# Altium schematic symbol library FPGA_Xilinx_Virtex7.SchLib: 34 symbols (part 18 of 26)
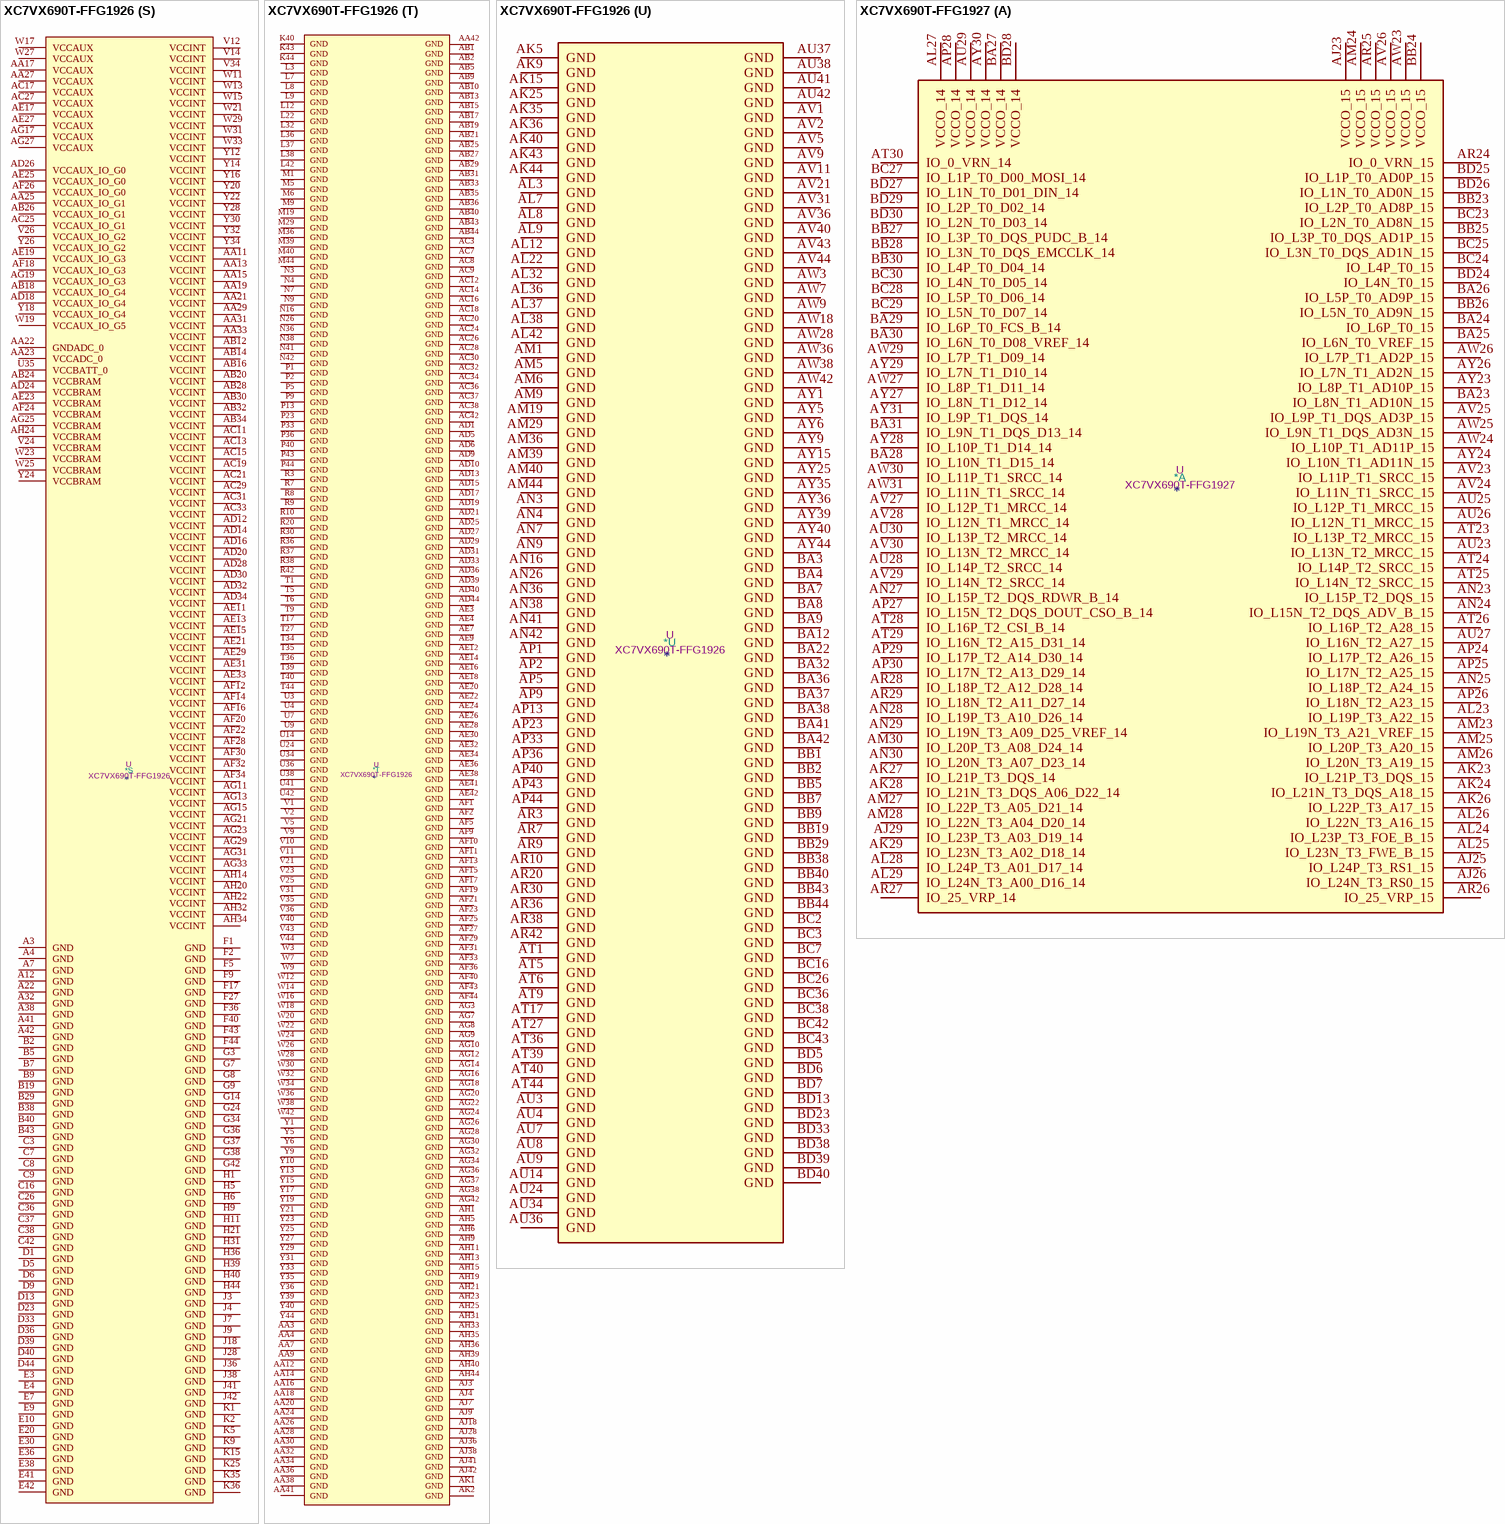
[diagram p189: symbols XC7VX690T-FFG1926 to XC7VX690T-FFG1927]

## XC7VX690T-FFG1926
designator *  value XC7VX690T-FFG1926  Reference: U
Virtex 7 XT 690 XC7VX690T-FFG1926; ki_keywords: FPGA; Description_: Virtex 7 XT 690 XC7VX690T-FFG1926
part A pins: AH26 VCCO_11, AH27 IO_L1P_T0_11, AH28 IO_L1N_T0_11, AH29 IO_L3P_T0_DQS_11, AH30 IO_0_VRN_10, AJ26 IO_L2P_T0_11, AJ27 IO_L2N_T0_11, AJ29 IO_L3N_T0_DQS_11, AJ30 IO_L2P_T0_10, AJ31 IO_L2N_T0_10, AK26 IO_L6P_T0_11, AK27 IO_L4P_T0_11, AK28 IO_L4N_T0_11, AK29 IO_L5P_T0_11, AK30 VCCO_10, AK31 IO_L1P_T0_10, AL25 IO_0_VRN_11, AL26 IO_L6N_T0_VREF_11, AL27 VCCO_11, AL28 IO_25_VRP_11, AL29 IO_L5N_T0_11, AL30 IO_L4P_T0_10, AL31 IO_L1N_T0_10, AM25 IO_L8P_T1_11, AM26 IO_L8N_T1_11, AM27 IO_L7P_T1_11, AM28 IO_L7N_T1_11, AM30 IO_L3P_T0_DQS_10, AM31 IO_L4N_T0_10, AM32 IO_L5P_T0_10, AN25 IO_L10P_T1_11, AN27 IO_L9P_T1_DQS_11, AN28 IO_L9N_T1_DQS_11, AN29 IO_L6P_T0_10, AN30 IO_L3N_T0_DQS_10, AN31 VCCO_10, AN32 IO_L5N_T0_10, AP25 IO_L10N_T1_11, AP26 IO_L12P_T1_MRCC_11, AP27 IO_L12N_T1_MRCC_11, AP28 VCCO_11, AP29 IO_25_VRP_10, AP30 IO_L6N_T0_VREF_10, AP31 IO_L15P_T2_DQS_10, AR25 VCCO_11, AR26 IO_L13P_T2_MRCC_11, AR27 IO_L11P_T1_SRCC_11, AR28 IO_L11N_T1_SRCC_11, AR29 IO_L16P_T2_10, AR31 IO_L15N_T2_DQS_10, AT25 IO_L14P_T2_SRCC_11, AT26 IO_L13N_T2_MRCC_11, AT28 IO_L18P_T2_10, AT29 IO_L18N_T2_10, AT30 IO_L16N_T2_10, AT31 IO_L17P_T2_10, AU25 IO_L15P_T2_DQS_11, AU26 IO_L14N_T2_SRCC_11, AU27 IO_L18P_T2_11, AU28 IO_L14P_T2_SRCC_10, AU29 VCCO_10, AU30 IO_L13P_T2_MRCC_10, AU31 IO_L17N_T2_10, AV25 IO_L15N_T2_DQS_11, AV26 VCCO_11, AV27 IO_L18N_T2_11, AV28 IO_L14N_T2_SRCC_10, AV29 IO_L11P_T1_SRCC_10, AV30 IO_L13N_T2_MRCC_10, AW25 IO_L17P_T2_11, AW26 IO_L17N_T2_11, AW27 IO_L16P_T2_11, AW29 IO_L11N_T1_SRCC_10, AW30 IO_L12P_T1_MRCC_10, AW31 IO_L12N_T1_MRCC_10, AY26 IO_L19P_T3_11, AY27 IO_L16N_T2_11, AY28 IO_L7P_T1_10, AY29 IO_L9P_T1_DQS_10, AY30 VCCO_10, AY31 IO_L10P_T1_10, AY32 IO_L10N_T1_10, BA25 IO_L22P_T3_11, BA26 IO_L19N_T3_VREF_11, BA27 VCCO_11, BA28 IO_L7N_T1_10, BA29 IO_L9N_T1_DQS_10, BA30 IO_L8P_T1_10, BA31 IO_L8N_T1_10, BB24 VCCO_11, BB25 IO_L22N_T3_11, BB26 IO_L23P_T3_11, BB27 IO_L23N_T3_11, BB28 IO_L20P_T3_10, BB30 IO_L19P_T3_10, BB31 IO_L19N_T3_VREF_10, BB32 IO_L23P_T3_10, BC25 IO_L21P_T3_DQS_11, BC27 IO_L24P_T3_11, BC28 IO_L20N_T3_10, BC29 IO_L22P_T3_10, BC30 IO_L24P_T3_10, BC31 VCCO_10, BC32 IO_L23N_T3_10, BD24 IO_L20P_T3_11, BD25 IO_L20N_T3_11, BD26 IO_L21N_T3_DQS_11, BD27 IO_L24N_T3_11, BD28 VCCO_10, BD29 IO_L22N_T3_10, BD30 IO_L24N_T3_10, BD31 IO_L21P_T3_DQS_10, BD32 IO_L21N_T3_DQS_10
part B pins: A23 IO_L24P_T3_13, A24 IO_L24N_T3_13, A25 IO_L22P_T3_13, A26 IO_L22N_T3_13, AJ21 IO_0_VRN_12, AJ22 IO_L4P_T0_12, AJ23 VCCO_12, AJ24 IO_L1N_T0_12, AJ25 IO_L1P_T0_12, AK21 IO_L2P_T0_12, AK22 IO_L4N_T0_12, AK23 IO_L3N_T0_DQS_12, AK24 IO_L3P_T0_DQS_12, AL21 IO_L2N_T0_12, AL23 IO_L5P_T0_12, AL24 IO_25_VRP_12, AM21 IO_L6N_T0_VREF_12, AM22 IO_L6P_T0_12, AM23 IO_L5N_T0_12, AM24 VCCO_12, AN21 VCCO_12, AN22 IO_L10N_T1_12, AN23 IO_L10P_T1_12, AN24 IO_L7P_T1_12, AP21 IO_L8N_T1_12, AP22 IO_L8P_T1_12, AP24 IO_L7N_T1_12, AR21 IO_L12N_T1_MRCC_12, AR22 IO_L12P_T1_MRCC_12, AR23 IO_L9N_T1_DQS_12, AR24 IO_L9P_T1_DQS_12, AT21 IO_L13P_T2_MRCC_12, AT22 VCCO_12, AT23 IO_L11N_T1_SRCC_12, AT24 IO_L11P_T1_SRCC_12, AU21 IO_L13N_T2_MRCC_12, AU22 IO_L14N_T2_SRCC_12, AU23 IO_L14P_T2_SRCC_12, AV22 IO_L16N_T2_12, AV23 IO_L16P_T2_12, AV24 IO_L18P_T2_12, AW21 IO_L15N_T2_DQS_12, AW22 IO_L15P_T2_DQS_12, AW23 VCCO_12, AW24 IO_L18N_T2_12, AY21 IO_L17N_T2_12, AY22 IO_L17P_T2_12, AY23 IO_L19N_T3_VREF_12, AY24 IO_L19P_T3_12, B24 VCCO_13, B25 IO_L20P_T3_13, B26 IO_L20N_T3_13, BA21 IO_L20P_T3_12, BA23 IO_L21N_T3_DQS_12, BA24 IO_L21P_T3_DQS_12, BB21 IO_L20N_T3_12, BB22 IO_L23N_T3_12, BB23 IO_L23P_T3_12, BC21 VCCO_12, BC22 IO_L22P_T3_12, BC23 IO_L24N_T3_12, BC24 IO_L24P_T3_12, BD22 IO_L22N_T3_12, C24 IO_L23P_T3_13, C25 IO_L23N_T3_13, D24 IO_L21P_T3_DQS_13, D25 IO_L21N_T3_DQS_13, D26 IO_L19N_T3_VREF_13, E24 IO_L18N_T2_13, E25 VCCO_13, E26 IO_L19P_T3_13, F24 IO_L18P_T2_13, F25 IO_L16P_T2_13, F26 IO_L16N_T2_13, G25 IO_L17P_T2_13, G26 IO_L17N_T2_13, H24 IO_L15P_T2_DQS_13, H25 IO_L15N_T2_DQS_13, H26 VCCO_13, H27 IO_L13N_T2_MRCC_13, J24 IO_L14P_T2_SRCC_13, J25 IO_L14N_T2_SRCC_13, J26 IO_L11N_T1_SRCC_13, J27 IO_L13P_T2_MRCC_13, K24 IO_L9N_T1_DQS_13, K26 IO_L11P_T1_SRCC_13, K27 IO_L12N_T1_MRCC_13, L24 IO_L9P_T1_DQS_13, L25 IO_L7N_T1_13, L26 IO_L12P_T1_MRCC_13, L27 VCCO_13, M24 VCCO_13, M25 IO_L7P_T1_13, M26 IO_L10P_T1_13, M27 IO_L10N_T1_13, N24 IO_L8P_T1_13, N25 IO_L8N_T1_13, N27 IO_0_VRN_13, P24 IO_L5P_T0_13, P25 IO_L5N_T0_13, P26 IO_L3P_T0_DQS_13, P27 IO_L3N_T0_DQS_13, R24 IO_L6N_T0_VREF_13, R25 VCCO_13, R26 IO_L1P_T0_13, R27 IO_L1N_T0_13, T24 IO_L6P_T0_13, T25 IO_L4P_T0_13, T26 IO_L4N_T0_13, U25 IO_25_VRP_13, U26 IO_L2P_T0_13, U27 IO_L2N_T0_13
part C pins: A31 IO_L1N_T0_AD0N_15, AJ32 IO_L4P_T0_D04_14, AJ33 VCCO_14, AJ34 IO_L2P_T0_D02_14, AJ35 IO_0_VRN_14, AK32 IO_L4N_T0_D05_14, AK33 IO_L6P_T0_FCS_B_14, AK34 IO_L2N_T0_D03_14, AL33 IO_L3P_T0_DQS_PUDC_B_14, AL34 IO_L6N_T0_D08_VREF_14, AL35 IO_L5P_T0_D06_14, AM33 IO_L3N_T0_DQS_EMCCLK_14, AM34 VCCO_14, AM35 IO_L5N_T0_D07_14, AN33 IO_25_VRP_14, AN34 IO_L1P_T0_D00_MOSI_14, AN35 IO_L1N_T0_D01_DIN_14, AP32 IO_L7P_T1_D09_14, AP34 IO_L8P_T1_D11_14, AP35 IO_L8N_T1_D12_14, AR32 IO_L7N_T1_D10_14, AR33 IO_L10P_T1_D14_14, AR34 IO_L10N_T1_D15_14, AR35 VCCO_14, AT32 VCCO_14, AT33 IO_L9P_T1_DQS_14, AT34 IO_L9N_T1_DQS_D13_14, AT35 IO_L12P_T1_MRCC_14, AU32 IO_L11P_T1_SRCC_14, AU33 IO_L11N_T1_SRCC_14, AU35 IO_L12N_T1_MRCC_14, AV32 IO_L14P_T2_SRCC_14, AV33 IO_L13P_T2_MRCC_14, AV34 IO_L13N_T2_MRCC_14, AV35 IO_L15P_T2_DQS_RDWR_B_14, AW32 IO_L14N_T2_SRCC_14, AW33 VCCO_14, AW34 IO_L17P_T2_A14_D30_14, AW35 IO_L15N_T2_DQS_DOUT_CSO_B_14, AY33 IO_L16P_T2_CSI_B_14, AY34 IO_L17N_T2_A13_D29_14, B31 IO_L1P_T0_AD0P_15, B32 IO_L3N_T0_DQS_AD1N_15, BA33 IO_L16N_T2_A15_D31_14, BA34 IO_L18P_T2_A12_D28_14, BA35 IO_L18N_T2_A11_D27_14, BB33 IO_L20P_T3_A08_D24_14, BB34 VCCO_14, BB35 IO_L19P_T3_A10_D26_14, BB36 IO_L19N_T3_A09_D25_VREF_14, BB37 IO_L21P_T3_DQS_14, BC33 IO_L20N_T3_A07_D23_14, BC34 IO_L22P_T3_A05_D21_14, BC35 IO_L22N_T3_A04_D20_14, BC37 IO_L21N_T3_DQS_A06_D22_14, BD34 IO_L24P_T3_A01_D17_14, BD35 IO_L24N_T3_A00_D16_14, BD36 IO_L23P_T3_A03_D19_14, BD37 IO_L23N_T3_A02_D18_14, C31 VCCO_15, C32 IO_L3P_T0_DQS_AD1P_15, D31 IO_L5N_T0_AD9N_15, D32 IO_L4N_T0_15, E31 IO_L5P_T0_AD9P_15, E32 IO_L4P_T0_15, F31 IO_L2N_T0_AD8N_15, F32 VCCO_15, G31 IO_L2P_T0_AD8P_15, G32 IO_L6P_T0_15, G33 IO_L6N_T0_VREF_15, H32 IO_L9N_T1_DQS_AD3N_15, H33 IO_L8P_T1_AD10P_15, H34 IO_L8N_T1_AD10N_15, J31 IO_L7N_T1_AD2N_15, J32 IO_L9P_T1_DQS_AD3P_15, J33 VCCO_15, J34 IO_L10P_T1_AD11P_15, J35 IO_L10N_T1_AD11N_15, K31 IO_L7P_T1_AD2P_15, K32 IO_L11N_T1_SRCC_15, K33 IO_L12P_T1_MRCC_15, K34 IO_L12N_T1_MRCC_15, L31 IO_L11P_T1_SRCC_15, L33 IO_L13P_T2_MRCC_15, L34 IO_L13N_T2_MRCC_15, L35 IO_L16N_T2_A27_15, M31 IO_L14P_T2_SRCC_15, M32 IO_L14N_T2_SRCC_15, M33 IO_L18N_T2_A23_15, M34 VCCO_15, M35 IO_L16P_T2_A28_15, N31 VCCO_15, N32 IO_L17N_T2_A25_15, N33 IO_L18P_T2_A24_15, N34 IO_L15P_T2_DQS_15, N35 IO_L15N_T2_DQS_ADV_B_15, P31 IO_L20N_T3_A19_15, P32 IO_L17P_T2_A26_15, P34 IO_L24N_T3_RS0_15, P35 IO_0_VRN_15, R31 IO_L20P_T3_A20_15, R32 IO_L22P_T3_A17_15, R33 IO_L22N_T3_A16_15, R34 IO_L24P_T3_RS1_15, R35 VCCO_15, T31 IO_L19N_T3_A21_VREF_15, T32 VCCO_15, T33 IO_L21N_T3_DQS_A18_15, U31 IO_L19P_T3_A22_15, U32 IO_L21P_T3_DQS_15, U33 IO_L23N_T3_FWE_B_15, V32 IO_25_VRP_15, V33 IO_L23P_T3_FOE_B_15
part D pins: A27 VCCO_16, A28 IO_L24P_T3_16, A29 IO_L24N_T3_16, A30 IO_L23N_T3_16, A33 IO_L16P_T2_17, A34 IO_L16N_T2_17, A35 IO_L15P_T2_DQS_17, A36 IO_L15N_T2_DQS_17, A37 VCCO_17, B27 IO_L22P_T3_16, B28 IO_L22N_T3_16, B30 IO_L23P_T3_16, B33 IO_L6N_T0_VREF_17, B34 VCCO_17, B35 IO_L18P_T2_17, B36 IO_L17P_T2_17, B37 IO_L17N_T2_17, C27 IO_L20P_T3_16, C28 IO_L20N_T3_16, C29 IO_L21P_T3_DQS_16, C30 IO_L21N_T3_DQS_16, C33 IO_L12P_T1_MRCC_17, C34 IO_L12N_T1_MRCC_17, C35 IO_L11N_T1_SRCC_17, D27 IO_L18N_T2_16, D28 VCCO_16, D29 IO_L19P_T3_16, D30 IO_L19N_T3_VREF_16, D34 IO_L13N_T2_MRCC_17, D35 IO_L11P_T1_SRCC_17, E27 IO_L18P_T2_16, E28 IO_L16P_T2_16, E29 IO_L16N_T2_16, E33 IO_L13P_T2_MRCC_17, E34 IO_L14N_T2_SRCC_17, E35 VCCO_17, F28 IO_L17P_T2_16, F29 IO_L17N_T2_16, F30 IO_L15N_T2_DQS_16, F33 IO_0_VRN_17, F34 IO_L14P_T2_SRCC_17, F35 IO_L19N_T3_VREF_17, G27 IO_L14P_T2_SRCC_16, G28 IO_L14N_T2_SRCC_16, G29 VCCO_16, G30 IO_L15P_T2_DQS_16, G35 IO_L19P_T3_17, H28 IO_L13P_T2_MRCC_16, H29 IO_L13N_T2_MRCC_16, H30 IO_L11N_T1_SRCC_16, H35 IO_25_VRP_17, J29 IO_L12N_T1_MRCC_16, J30 IO_L11P_T1_SRCC_16, K28 IO_L10N_T1_16, K29 IO_L12P_T1_MRCC_16, K30 VCCO_16, L28 IO_L10P_T1_16, L29 IO_L9P_T1_DQS_16, L30 IO_L9N_T1_DQS_16, M28 IO_L8N_T1_16, M30 IO_L7N_T1_16, N28 IO_L8P_T1_16, N29 IO_L6N_T0_VREF_16, N30 IO_L7P_T1_16, P28 VCCO_16, P29 IO_L6P_T0_16, P30 IO_25_VRP_16, R28 IO_L4P_T0_16, R29 IO_L4N_T0_16, T28 IO_L2P_T0_16, T29 IO_L2N_T0_16, T30 IO_L5N_T0_16, U28 IO_L3N_T0_DQS_16, U29 VCCO_16, U30 IO_L5P_T0_16, V27 IO_0_VRN_16, V28 IO_L3P_T0_DQS_16, V29 IO_L1P_T0_16, V30 IO_L1N_T0_16
part E pins: AH16 VCCO_30, AH17 IO_L2N_T0_31, AH18 IO_L2P_T0_31, AJ14 IO_0_VRN_30, AJ15 IO_L2N_T0_30, AJ16 IO_L2P_T0_30, AJ17 IO_0_VRN_31, AJ19 IO_L4N_T0_31, AJ20 IO_L4P_T0_31, AK14 IO_L4P_T0_30, AK16 IO_L1P_T0_30, AK17 IO_L1N_T0_31, AK18 IO_L1P_T0_31, AK19 IO_L6P_T0_31, AK20 VCCO_31, AL14 IO_L4N_T0_30, AL15 IO_L3P_T0_DQS_30, AL16 IO_L1N_T0_30, AL17 VCCO_31, AL18 IO_L3P_T0_DQS_31, AL19 IO_L6N_T0_VREF_31, AL20 IO_L5P_T0_31, AM14 VCCO_30, AM15 IO_L3N_T0_DQS_30, AM16 IO_25_VRP_30, AM17 IO_L10P_T1_31, AM18 IO_L3N_T0_DQS_31, AM20 IO_L5N_T0_31, AN14 IO_L5N_T0_30, AN15 IO_L5P_T0_30, AN17 IO_L10N_T1_31, AN18 IO_L7N_T1_31, AN19 IO_L7P_T1_31, AN20 IO_25_VRP_31, AP14 IO_L15P_T2_DQS_30, AP15 IO_L6N_T0_VREF_30, AP16 IO_L6P_T0_30, AP17 IO_L8P_T1_31, AP18 VCCO_31, AP19 IO_L9N_T1_DQS_31, AP20 IO_L9P_T1_DQS_31, AR14 IO_L15N_T2_DQS_30, AR15 VCCO_30, AR16 IO_L16P_T2_30, AR17 IO_L8N_T1_31, AR18 IO_L11N_T1_SRCC_31, AR19 IO_L11P_T1_SRCC_31, AT13 IO_L17N_T2_30, AT14 IO_L17P_T2_30, AT15 IO_L16N_T2_30, AT16 IO_L18P_T2_30, AT18 IO_L12N_T1_MRCC_31, AT19 IO_L12P_T1_MRCC_31, AT20 IO_L13P_T2_MRCC_31, AU13 IO_L13P_T2_MRCC_30, AU15 IO_L14P_T2_SRCC_30, AU16 IO_L18N_T2_30, AU17 IO_L14N_T2_SRCC_31, AU18 IO_L14P_T2_SRCC_31, AU19 VCCO_31, AU20 IO_L13N_T2_MRCC_31, AV13 IO_L13N_T2_MRCC_30, AV14 IO_L12P_T1_MRCC_30, AV15 IO_L14N_T2_SRCC_30, AV16 VCCO_30, AV17 IO_L17P_T2_31, AV18 IO_L15N_T2_DQS_31, AV19 IO_L15P_T2_DQS_31, AV20 IO_L16P_T2_31, AW13 VCCO_30, AW14 IO_L12N_T1_MRCC_30, AW15 IO_L11N_T1_SRCC_30, AW16 IO_L11P_T1_SRCC_30, AW17 IO_L17N_T2_31, AW19 IO_L18P_T2_31, AW20 IO_L16N_T2_31, AY13 IO_L10P_T1_30, AY14 IO_L8P_T1_30, AY16 IO_L7N_T1_30, AY17 IO_L7P_T1_30, AY18 IO_L19P_T3_31, AY19 IO_L18N_T2_31, AY20 VCCO_31, BA13 IO_L10N_T1_30, BA14 IO_L8N_T1_30, BA15 IO_L9N_T1_DQS_30, BA16 IO_L9P_T1_DQS_30, BA17 VCCO_30, BA18 IO_L19N_T3_VREF_31, BA19 IO_L21N_T3_DQS_31, BA20 IO_L21P_T3_DQS_31, BB13 IO_L23P_T3_30, BB14 VCCO_30, BB15 IO_L19N_T3_VREF_30, BB16 IO_L19P_T3_30, BB17 IO_L20P_T3_30, BB18 IO_L23P_T3_31, BB20 IO_L20P_T3_31, BC13 IO_L23N_T3_30, BC14 IO_L24N_T3_30, BC15 IO_L24P_T3_30, BC17 IO_L20N_T3_30, BC18 IO_L23N_T3_31, BC19 IO_L24P_T3_31, BC20 IO_L20N_T3_31, BD14 IO_L21N_T3_DQS_30, BD15 IO_L21P_T3_DQS_30, BD16 IO_L22N_T3_30, BD17 IO_L22P_T3_30, BD18 VCCO_31, BD19 IO_L24N_T3_31, BD20 IO_L22N_T3_31, BD21 IO_L22P_T3_31
part F pins: A20 IO_L24N_T3_33, A21 IO_L24P_T3_33, AH10 IO_0_VRN_32, AH12 IO_L2P_T0_32, AJ10 IO_L4N_T0_32, AJ11 IO_L4P_T0_32, AJ12 IO_L2N_T0_32, AJ13 VCCO_32, AK10 VCCO_32, AK11 IO_L1P_T0_32, AK12 IO_L6N_T0_VREF_32, AK13 IO_L6P_T0_32, AL10 IO_L3P_T0_DQS_32, AL11 IO_L1N_T0_32, AL13 IO_25_VRP_32, AM10 IO_L3N_T0_DQS_32, AM11 IO_L5N_T0_32, AM12 IO_L5P_T0_32, AM13 IO_L8P_T1_32, AN10 IO_L7P_T1_32, AN11 VCCO_32, AN12 IO_L10P_T1_32, AN13 IO_L8N_T1_32, AP10 IO_L7N_T1_32, AP11 IO_L9P_T1_DQS_32, AP12 IO_L10N_T1_32, AR11 IO_L9N_T1_DQS_32, AR12 IO_L12N_T1_MRCC_32, AR13 IO_L12P_T1_MRCC_32, AT10 IO_L11N_T1_SRCC_32, AT11 IO_L11P_T1_SRCC_32, AT12 VCCO_32, AU10 IO_L13N_T2_MRCC_32, AU11 IO_L13P_T2_MRCC_32, AU12 IO_L14P_T2_SRCC_32, AV10 IO_L15P_T2_DQS_32, AV12 IO_L14N_T2_SRCC_32, AW10 IO_L15N_T2_DQS_32, AW11 IO_L16P_T2_32, AW12 IO_L18P_T2_32, AY10 VCCO_32, AY11 IO_L16N_T2_32, AY12 IO_L18N_T2_32, B20 IO_L23N_T3_33, B21 IO_L23P_T3_33, B22 IO_L20N_T3_33, B23 IO_L22N_T3_33, BA10 IO_L17N_T2_32, BA11 IO_L17P_T2_32, BB8 IO_L21P_T3_DQS_32, BB10 IO_L19N_T3_VREF_32, BB11 IO_L19P_T3_32, BB12 IO_L22P_T3_32, BC8 IO_L21N_T3_DQS_32, BC9 IO_L23N_T3_32, BC10 IO_L23P_T3_32, BC11 VCCO_32, BC12 IO_L22N_T3_32, BD8 VCCO_32, BD9 IO_L20N_T3_32, BD10 IO_L20P_T3_32, BD11 IO_L24N_T3_32, BD12 IO_L24P_T3_32, C21 VCCO_33, C22 IO_L20P_T3_33, C23 IO_L22P_T3_33, D21 IO_L21N_T3_DQS_33, D22 IO_L21P_T3_DQS_33, E21 IO_L19N_T3_VREF_33, E22 IO_L19P_T3_33, E23 IO_L18N_T2_33, F21 IO_L15N_T2_DQS_33, F22 VCCO_33, F23 IO_L18P_T2_33, G21 IO_L15P_T2_DQS_33, G22 IO_L17N_T2_33, G23 IO_L16N_T2_33, H22 IO_L17P_T2_33, H23 IO_L16P_T2_33, J21 IO_L13N_T2_MRCC_33, J22 IO_L13P_T2_MRCC_33, J23 VCCO_33, K20 VCCO_33, K21 IO_L12N_T1_MRCC_33, K22 IO_L14N_T2_SRCC_33, K23 IO_L14P_T2_SRCC_33, L20 IO_L10N_T1_33, L21 IO_L12P_T1_MRCC_33, L23 IO_L11N_T1_SRCC_33, M20 IO_L10P_T1_33, M21 IO_L7N_T1_33, M22 IO_L7P_T1_33, M23 IO_L11P_T1_SRCC_33, N20 IO_L8N_T1_33, N21 VCCO_33, N22 IO_L9N_T1_DQS_33, N23 IO_L9P_T1_DQS_33, P20 IO_L8P_T1_33, P21 IO_L6N_T0_VREF_33, P22 IO_L1N_T0_33, R21 IO_L6P_T0_33, R22 IO_L1P_T0_33, R23 IO_25_VRP_33, T20 IO_L2N_T0_33, T21 IO_L4N_T0_33, T22 VCCO_33, T23 IO_L3N_T0_DQS_33, U20 IO_L2P_T0_33, U21 IO_L4P_T0_33, U22 IO_L5N_T0_33, U23 IO_L3P_T0_DQS_33, V20 IO_0_VRN_33, V22 IO_L5P_T0_33
part G pins: A13 IO_L2N_T0_34, A14 IO_L5N_T0_34, A15 IO_L5P_T0_34, A16 IO_L1N_T0_34, A17 VCCO_35, A18 IO_L24N_T3_35, A19 IO_L24P_T3_35, B12 IO_L4N_T0_34, B13 IO_L2P_T0_34, B14 VCCO_34, B15 IO_L3N_T0_DQS_34, B16 IO_L1P_T0_34, B17 IO_L23N_T3_35, B18 IO_L23P_T3_35, C12 IO_L4P_T0_34, C13 IO_L6N_T0_VREF_34, C14 IO_L6P_T0_34, C15 IO_L3P_T0_DQS_34, C17 IO_L21N_T3_DQS_35, C18 IO_L21P_T3_DQS_35, C19 IO_L22N_T3_35, C20 IO_L22P_T3_35, D14 IO_L10N_T1_34, D15 IO_L10P_T1_34, D16 IO_L19N_T3_VREF_35, D17 IO_L19P_T3_35, D18 VCCO_35, D19 IO_L20N_T3_35, D20 IO_L20P_T3_35, E13 IO_L7N_T1_34, E14 IO_L7P_T1_34, E15 VCCO_34, E16 IO_L8N_T1_34, E17 IO_L18N_T2_35, E18 IO_L18P_T2_35, E19 IO_L17N_T2_35, F13 IO_L11N_T1_SRCC_34, F14 IO_L9N_T1_DQS_34, F15 IO_L9P_T1_DQS_34, F16 IO_L8P_T1_34, F18 IO_L15N_T2_DQS_35, F19 IO_L17P_T2_35, F20 IO_L16N_T2_35, G13 IO_L11P_T1_SRCC_34, G15 IO_L12N_T1_MRCC_34, G16 IO_L12P_T1_MRCC_34, G17 IO_L14N_T2_SRCC_35, G18 IO_L15P_T2_DQS_35, G19 VCCO_35, G20 IO_L16P_T2_35, H13 IO_L14N_T2_SRCC_34, H14 IO_L14P_T2_SRCC_34, H15 IO_L13N_T2_MRCC_34, H16 VCCO_34, H17 IO_L14P_T2_SRCC_35, H18 IO_L13N_T2_MRCC_35, H19 IO_L13P_T2_MRCC_35, H20 IO_L11N_T1_SRCC_35, J14 IO_L15N_T2_DQS_34, J15 IO_L13P_T2_MRCC_34, J16 IO_L16N_T2_34, J17 IO_L9N_T1_DQS_AD7N_35, J19 IO_L12N_T1_MRCC_35, J20 IO_L11P_T1_SRCC_35, K14 IO_L15P_T2_DQS_34, K16 IO_L16P_T2_34, K17 IO_L9P_T1_DQS_AD7P_35, K18 IO_L7N_T1_AD6N_35, K19 IO_L12P_T1_MRCC_35, L14 IO_L17N_T2_34, L15 IO_L17P_T2_34, L16 IO_L18N_T2_34, L17 VCCO_35, L18 IO_L10N_T1_AD15N_35, L19 IO_L7P_T1_AD6P_35, M14 VCCO_34, M15 IO_L24N_T3_34, M16 IO_L18P_T2_34, M17 IO_L8N_T1_AD14N_35, M18 IO_L10P_T1_AD15P_35, N14 IO_L21N_T3_DQS_34, N15 IO_L24P_T3_34, N17 IO_L8P_T1_AD14P_35, N18 IO_L3N_T0_DQS_AD5N_35, N19 IO_L3P_T0_DQS_AD5P_35, P14 IO_L21P_T3_DQS_34, P15 IO_L22N_T3_34, P16 IO_L22P_T3_34, P17 IO_L1N_T0_AD4N_35, P18 VCCO_35, P19 IO_25_VRP_35, R14 IO_L23N_T3_34, R15 VCCO_34, R16 IO_0_VRN_34, R17 IO_L1P_T0_AD4P_35, R18 IO_L6N_T0_VREF_35, R19 IO_L5N_T0_AD13N_35, T14 IO_L23P_T3_34, T15 IO_L19N_T3_VREF_34, T16 IO_L20N_T3_34, T18 IO_L6P_T0_35, T19 IO_L5P_T0_AD13P_35, U15 IO_L19P_T3_34, U16 IO_L20P_T3_34, U17 IO_L4N_T0_35, U18 IO_L4P_T0_35, U19 VCCO_35, V15 IO_25_VRP_34, V16 VCCO_34, V17 IO_0_VRN_35, V18 IO_L2N_T0_AD12N_35, V19 IO_L2P_T0_AD12P_35
part H pins: A8 IO_L5N_T0_36, A9 IO_L3N_T0_DQS_36, A10 IO_L3P_T0_DQS_36, A11 IO_L1N_T0_36, B8 IO_L5P_T0_36, B10 IO_L4N_T0_36, B11 IO_L1P_T0_36, C10 IO_L4P_T0_36, C11 VCCO_36, D10 IO_L2N_T0_36, D11 IO_L2P_T0_36, D12 IO_L6N_T0_VREF_36, E11 IO_L8N_T1_36, E12 IO_L6P_T0_36, F10 IO_L10N_T1_36, F11 IO_L8P_T1_36, F12 VCCO_36, G10 IO_L10P_T1_36, G11 IO_L7N_T1_36, G12 IO_L7P_T1_36, H10 IO_L9N_T1_DQS_36, H12 IO_L11N_T1_SRCC_36, J10 IO_L9P_T1_DQS_36, J11 IO_L12N_T1_MRCC_36, J12 IO_L11P_T1_SRCC_36, J13 VCCO_36, K10 VCCO_36, K11 IO_L12P_T1_MRCC_36, K12 IO_L13N_T2_MRCC_36, K13 IO_L13P_T2_MRCC_36, L10 IO_L14N_T2_SRCC_36, L11 IO_L14P_T2_SRCC_36, L13 IO_L15N_T2_DQS_36, M10 IO_L18N_T2_36, M11 IO_L16N_T2_36, M12 IO_L16P_T2_36, M13 IO_L15P_T2_DQS_36, N10 IO_L18P_T2_36, N11 VCCO_36, N12 IO_L17N_T2_36, N13 IO_L17P_T2_36, P10 IO_0_VRN_36, P11 IO_L20N_T3_36, P12 IO_L20P_T3_36, R11 IO_L22N_T3_36, R12 IO_L22P_T3_36, R13 IO_L24N_T3_36, T10 IO_L19N_T3_VREF_36, T11 IO_L19P_T3_36, T12 VCCO_36, T13 IO_L24P_T3_36, U10 IO_L23N_T3_36, U11 IO_L23P_T3_36, U12 IO_L21N_T3_DQS_36, U13 IO_L21P_T3_DQS_36, V13 IO_25_VRP_36
part I pins: AN5 MGTHRXN3_112, AN6 MGTHRXP3_112, AP3 MGTHTXN3_112, AP4 MGTHTXP3_112, AP7 MGTREFCLK0N_112, AP8 MGTREFCLK0P_112, AR1 MGTHTXN2_112, AR2 MGTHTXP2_112, AR5 MGTHRXN2_112, AR6 MGTHRXP2_112, AT3 MGTHRXN1_112, AT4 MGTHRXP1_112, AT7 MGTREFCLK1N_112, AT8 MGTREFCLK1P_112, AU1 MGTHTXN1_112, AU2 MGTHTXP1_112, AU5 MGTHRXN0_112, AU6 MGTHRXP0_112, AV3 MGTHTXN0_112, AV4 MGTHTXP0_112, AV7 MGTREFCLK0N_111, AV8 MGTREFCLK0P_111, AW1 MGTHTXN3_111, AW2 MGTHTXP3_111, AW5 MGTHRXN3_111, AW6 MGTHRXP3_111, AY3 MGTHRXN2_111, AY4 MGTHRXP2_111, AY7 MGTREFCLK1N_111, AY8 MGTREFCLK1P_111, BA1 MGTHTXN2_111, BA2 MGTHTXP2_111, BA5 MGTHRXN1_111, BA6 MGTHRXP1_111, BB3 MGTHTXN1_111, BB4 MGTHTXP1_111, BC5 MGTHRXN0_111, BC6 MGTHRXP0_111, BD3 MGTHTXN0_111, BD4 MGTHTXP0_111
part J pins: AC1 MGTHTXN3_114, AC2 MGTHTXP3_114, AC5 MGTHRXN3_114, AC6 MGTHRXP3_114, AD3 MGTHRXN2_114, AD4 MGTHRXP2_114, AD7 MGTREFCLK0N_114, AD8 MGTREFCLK0P_114, AE1 MGTHTXN2_114, AE2 MGTHTXP2_114, AE5 MGTHRXN1_114, AE6 MGTHRXP1_114, AF3 MGTHTXN1_114, AF4 MGTHTXP1_114, AF7 MGTREFCLK1N_114, AF8 MGTREFCLK1P_114, AG1 MGTHTXN0_114, AG2 MGTHTXP0_114, AG5 MGTHRXN0_114, AG6 MGTHRXP0_114, AH3 MGTHRXN3_113, AH4 MGTHRXP3_113, AH7 MGTREFCLK0N_113, AH8 MGTREFCLK0P_113, AJ1 MGTHTXN3_113, AJ2 MGTHTXP3_113, AJ5 MGTHRXN2_113, AJ6 MGTHRXP2_113, AK3 MGTHTXN2_113, AK4 MGTHTXP2_113, AK7 MGTREFCLK1N_113, AK8 MGTREFCLK1P_113, AL1 MGTHTXN1_113, AL2 MGTHTXP1_113, AL5 MGTHRXN1_113, AL6 MGTHRXP1_113, AM3 MGTHRXN0_113, AM4 MGTHRXP0_113, AN1 MGTHTXN0_113, AN2 MGTHTXP0_113
part K pins: AA1 MGTHTXN1_115, AA2 MGTHTXP1_115, AA5 MGTHRXN0_115, AA6 MGTHRXP0_115, AB3 MGTHTXN0_115, AB4 MGTHTXP0_115, AB7 MGTREFCLK1N_115, AB8 MGTREFCLK1P_115, M3 MGTHRXN3_116, M4 MGTHRXP3_116, N1 MGTHTXN3_116, N2 MGTHTXP3_116, N5 MGTHRXN2_116, N6 MGTHRXP2_116, P3 MGTHTXN2_116, P4 MGTHTXP2_116, P7 MGTREFCLK0N_116, P8 MGTREFCLK0P_116, R1 MGTHTXN1_116, R2 MGTHTXP1_116, R5 MGTHRXN1_116, R6 MGTHRXP1_116, T3 MGTHRXN0_116, T4 MGTHRXP0_116, T7 MGTREFCLK1N_116, T8 MGTREFCLK1P_116, U1 MGTHTXN0_116, U2 MGTHTXP0_116, U5 MGTHRXN3_115, U6 MGTHRXP3_115, V3 MGTHTXN3_115, V4 MGTHTXP3_115, V7 MGTREFCLK0N_115, V8 MGTREFCLK0P_115, W1 MGTHTXN2_115, W2 MGTHTXP2_115, W5 MGTHRXN2_115, W6 MGTHRXP2_115, Y3 MGTHRXN1_115, Y4 MGTHRXP1_115
part L pins: A5 MGTHRXN3_118, A6 MGTHRXP3_118, B3 MGTHTXN3_118, B4 MGTHTXP3_118, C1 MGTHTXN2_118, C2 MGTHTXP2_118, C5 MGTHRXN2_118, C6 MGTHRXP2_118, D3 MGTHRXN1_118, D4 MGTHRXP1_118, D7 MGTREFCLK0N_118, D8 MGTREFCLK0P_118, E1 MGTHTXN1_118, E2 MGTHTXP1_118, E5 MGTHRXN0_118, E6 MGTHRXP0_118, F3 MGTHTXN0_118, F4 MGTHTXP0_118, F7 MGTREFCLK1N_118, F8 MGTREFCLK1P_118, G1 MGTHTXN3_117, G2 MGTHTXP3_117, G5 MGTHRXN3_117, G6 MGTHRXP3_117, H3 MGTHRXN2_117, H4 MGTHRXP2_117, J1 MGTHTXN2_117, J2 MGTHTXP2_117, J5 MGTHRXN1_117, J6 MGTHRXP1_117, K3 MGTHTXN1_117, K4 MGTHTXP1_117, K7 MGTREFCLK0N_117, K8 MGTREFCLK0P_117, L1 MGTHTXN0_117, L2 MGTHTXP0_117, L5 MGTHRXN0_117, L6 MGTHRXP0_117, M7 MGTREFCLK1N_117, M8 MGTREFCLK1P_117
part M pins: AN39 MGTHRXP3_212, AN40 MGTHRXN3_212, AP37 MGTREFCLK0P_212, AP38 MGTREFCLK0N_212, AP41 MGTHTXP3_212, AP42 MGTHTXN3_212, AR39 MGTHRXP2_212, AR40 MGTHRXN2_212, AR43 MGTHTXP2_212, AR44 MGTHTXN2_212, AT37 MGTREFCLK1P_212, AT38 MGTREFCLK1N_212, AT41 MGTHRXP1_212, AT42 MGTHRXN1_212, AU39 MGTHRXP0_212, AU40 MGTHRXN0_212, AU43 MGTHTXP1_212, AU44 MGTHTXN1_212, AV37 MGTREFCLK0P_211, AV38 MGTREFCLK0N_211, AV41 MGTHTXP0_212, AV42 MGTHTXN0_212, AW39 MGTHRXP3_211, AW40 MGTHRXN3_211, AW43 MGTHTXP3_211, AW44 MGTHTXN3_211, AY37 MGTREFCLK1P_211, AY38 MGTREFCLK1N_211, AY41 MGTHRXP2_211, AY42 MGTHRXN2_211, BA39 MGTHRXP1_211, BA40 MGTHRXN1_211, BA43 MGTHTXP2_211, BA44 MGTHTXN2_211, BB41 MGTHTXP1_211, BB42 MGTHTXN1_211, BC39 MGTHRXP0_211, BC40 MGTHRXN0_211, BD41 MGTHTXP0_211, BD42 MGTHTXN0_211
part N pins: AC39 MGTHRXP3_214, AC40 MGTHRXN3_214, AC43 MGTHTXP3_214, AC44 MGTHTXN3_214, AD37 MGTREFCLK0P_214, AD38 MGTREFCLK0N_214, AD41 MGTHRXP2_214, AD42 MGTHRXN2_214, AE39 MGTHRXP1_214, AE40 MGTHRXN1_214, AE43 MGTHTXP2_214, AE44 MGTHTXN2_214, AF37 MGTREFCLK1P_214, AF38 MGTREFCLK1N_214, AF41 MGTHTXP1_214, AF42 MGTHTXN1_214, AG39 MGTHRXP0_214, AG40 MGTHRXN0_214, AG43 MGTHTXP0_214, AG44 MGTHTXN0_214, AH37 MGTREFCLK0P_213, AH38 MGTREFCLK0N_213, AH41 MGTHRXP3_213, AH42 MGTHRXN3_213, AJ39 MGTHRXP2_213, AJ40 MGTHRXN2_213, AJ43 MGTHTXP3_213, AJ44 MGTHTXN3_213, AK37 MGTREFCLK1P_213, AK38 MGTREFCLK1N_213, AK41 MGTHTXP2_213, AK42 MGTHTXN2_213, AL39 MGTHRXP1_213, AL40 MGTHRXN1_213, AL43 MGTHTXP1_213, AL44 MGTHTXN1_213, AM41 MGTHRXP0_213, AM42 MGTHRXN0_213, AN43 MGTHTXP0_213, AN44 MGTHTXN0_213
part O pins: AA39 MGTHRXP0_215, AA40 MGTHRXN0_215, AA43 MGTHTXP1_215, AA44 MGTHTXN1_215, AB37 MGTREFCLK1P_215, AB38 MGTREFCLK1N_215, AB41 MGTHTXP0_215, AB42 MGTHTXN0_215, M41 MGTHRXP3_216, M42 MGTHRXN3_216, N39 MGTHRXP2_216, N40 MGTHRXN2_216, N43 MGTHTXP3_216, N44 MGTHTXN3_216, P37 MGTREFCLK0P_216, P38 MGTREFCLK0N_216, P41 MGTHTXP2_216, P42 MGTHTXN2_216, R39 MGTHRXP1_216, R40 MGTHRXN1_216, R43 MGTHTXP1_216, R44 MGTHTXN1_216, T37 MGTREFCLK1P_216, T38 MGTREFCLK1N_216, T41 MGTHRXP0_216, T42 MGTHRXN0_216, U39 MGTHRXP3_215, U40 MGTHRXN3_215, U43 MGTHTXP0_216, U44 MGTHTXN0_216, V37 MGTREFCLK0P_215, V38 MGTREFCLK0N_215, V41 MGTHTXP3_215, V42 MGTHTXN3_215, W39 MGTHRXP2_215, W40 MGTHRXN2_215, W43 MGTHTXP2_215, W44 MGTHTXN2_215, Y41 MGTHRXP1_215, Y42 MGTHRXN1_215
part P pins: A39 MGTHRXP3_218, A40 MGTHRXN3_218, B41 MGTHTXP3_218, B42 MGTHTXN3_218, C39 MGTHRXP2_218, C40 MGTHRXN2_218, C43 MGTHTXP2_218, C44 MGTHTXN2_218, D37 MGTREFCLK0P_218, D38 MGTREFCLK0N_218, D41 MGTHRXP1_218, D42 MGTHRXN1_218, E39 MGTHRXP0_218, E40 MGTHRXN0_218, E43 MGTHTXP1_218, E44 MGTHTXN1_218, F37 MGTREFCLK1P_218, F38 MGTREFCLK1N_218, F41 MGTHTXP0_218, F42 MGTHTXN0_218, G39 MGTHRXP3_217, G40 MGTHRXN3_217, G43 MGTHTXP3_217, G44 MGTHTXN3_217, H41 MGTHRXP2_217, H42 MGTHRXN2_217, J39 MGTHRXP1_217, J40 MGTHRXN1_217, J43 MGTHTXP2_217, J44 MGTHTXN2_217, K37 MGTREFCLK0P_217, K38 MGTREFCLK0N_217, K41 MGTHTXP1_217, K42 MGTHTXN1_217, L39 MGTHRXP0_217, L40 MGTHRXN0_217, L43 MGTHTXP0_217, L44 MGTHTXN0_217, M37 MGTREFCLK1P_217, M38 MGTREFCLK1N_217
part Q pins: AA8 MGTAVCC_G11, AA37 MGTAVCC_G21, AB6 MGTAVCC_G11, AB39 MGTAVCC_G21, AC4 MGTAVTT_G11, AC41 MGTAVTT_G21, AD2 MGTAVTT_G11, AD43 MGTAVTT_G21, AE8 MGTAVCC_G11, AE37 MGTAVCC_G21, AF6 MGTAVCC_G11, AF39 MGTAVCC_G21, AG4 MGTAVTT_G11, AG41 MGTAVTT_G21, AH2 MGTAVTT_G11, AH43 MGTAVTT_G21, AJ8 MGTAVCC_G11, AJ37 MGTAVCC_G21, AK6 MGTAVCC_G11, AK39 MGTAVCC_G21, AL4 MGTAVTT_G11, AL41 MGTAVTT_G21, AM2 MGTAVTT_G11, AM43 MGTAVTT_G21, AN8 MGTVCCAUX_G10, AN37 MGTVCCAUX_G20, AP6 MGTAVCC_G10, AP39 MGTAVCC_G20, AR4 MGTAVTT_G10, AR8 MGTAVCC_G10, AR37 MGTAVCC_G20, AR41 MGTAVTT_G20, AT2 MGTAVTT_G10, AT43 MGTAVTT_G20, AV6 MGTAVCC_G10, AV39 MGTAVCC_G20, AW4 MGTAVTT_G10, AW8 MGTAVCC_G10, AW37 MGTAVCC_G20, AW41 MGTAVTT_G20, AY2 MGTAVTT_G10, AY43 MGTAVTT_G20, B6 MGTAVCC_G12, B39 MGTAVCC_G22, BB6 MGTAVCC_G10, BB39 MGTAVCC_G20, BC4 MGTAVTT_G10, BC41 MGTAVTT_G20, C4 MGTAVTT_G12, C41 MGTAVTT_G22, D2 MGTAVTT_G12, D43 MGTAVTT_G22, E8 MGTAVCC_G12, E37 MGTAVCC_G22, F6 MGTAVCC_G12, F39 MGTAVCC_G22, G4 MGTAVTT_G12, G41 MGTAVTT_G22, H2 MGTAVTT_G12, H43 MGTAVTT_G22, J8 MGTAVCC_G12, J37 MGTAVCC_G22, K6 MGTAVCC_G12, K39 MGTAVCC_G22, L4 MGTAVTT_G12, L41 MGTAVTT_G22, M2 MGTAVTT_G12, M43 MGTAVTT_G22, N8 MGTAVCC_G12, N37 MGTAVCC_G22, P6 MGTAVCC_G12, P39 MGTAVCC_G22, R4 MGTAVTT_G12, R41 MGTAVTT_G22, T2 MGTAVTT_G12, T43 MGTAVTT_G22, U8 MGTVCCAUX_G12, U37 MGTVCCAUX_G22, V6 MGTAVCC_G11, V39 MGTAVCC_G21, W4 MGTAVTT_G11, W8 MGTVCCAUX_G11, W37 MGTVCCAUX_G21, W41 MGTAVTT_G21, Y2 MGTAVTT_G11, Y7 MGTAVTTRCAL_115, Y8 MGTRREF_115, Y37 MGTRREF_215, Y38 MGTAVTTRCAL_215, Y43 MGTAVTT_G21
part R pins: AA10 CFGBVS_0, AA35 TDO_0, AB11 M1_0, AB22 VREFN_0, AB23 VP_0, AC10 M0_0, AC22 VN_0, AC23 VREFP_0, AC35 TCK_0, AD11 M2_0, AD22 DXN_0, AD23 DXP_0, AD35 VCCO_0, AE10 DONE_0, AE35 TDI_0, AF35 VCCO_0, AG35 TMS_0, W10 INIT_B_0, W35 CCLK_0, Y11 PROGRAM_B_0
part S pins: A3 GND, A4 GND, A7 GND, A12 GND, A22 GND, A32 GND, A38 GND, A41 GND, A42 GND, AA11 VCCINT, AA13 VCCINT, AA15 VCCINT, AA17 VCCAUX, AA19 VCCINT, AA21 VCCINT, AA22 GNDADC_0, AA23 VCCADC_0, AA25 VCCAUX_IO_G1, AA27 VCCAUX, AA29 VCCINT, AA31 VCCINT, AA33 VCCINT, AB12 VCCINT, AB14 VCCINT, AB16 VCCINT, AB18 VCCAUX_IO_G4, AB20 VCCINT, AB24 VCCBRAM, AB26 VCCAUX_IO_G1, AB28 VCCINT, AB30 VCCINT, AB32 VCCINT, AB34 VCCINT, AC11 VCCINT, AC13 VCCINT, AC15 VCCINT, AC17 VCCAUX, AC19 VCCINT, AC21 VCCINT, AC25 VCCAUX_IO_G1, AC27 VCCAUX, AC29 VCCINT, AC31 VCCINT, AC33 VCCINT, AD12 VCCINT, AD14 VCCINT, AD16 VCCINT, AD18 VCCAUX_IO_G4, AD20 VCCINT, AD24 VCCBRAM, AD26 VCCAUX_IO_G0, AD28 VCCINT, AD30 VCCINT, AD32 VCCINT, AD34 VCCINT, AE11 VCCINT, AE13 VCCINT, AE15 VCCINT, AE17 VCCAUX, AE19 VCCAUX_IO_G3, AE21 VCCINT, AE23 VCCBRAM, AE25 VCCAUX_IO_G0, AE27 VCCAUX, AE29 VCCINT, AE31 VCCINT, AE33 VCCINT, AF12 VCCINT, AF14 VCCINT, AF16 VCCINT, AF18 VCCAUX_IO_G3, AF20 VCCINT, AF22 VCCINT, AF24 VCCBRAM, AF26 VCCAUX_IO_G0, AF28 VCCINT, AF30 VCCINT, AF32 VCCINT, AF34 VCCINT, AG11 VCCINT, AG13 VCCINT, AG15 VCCINT, AG17 VCCAUX, AG19 VCCAUX_IO_G3, AG21 VCCINT, AG23 VCCINT, AG25 VCCBRAM, AG27 VCCAUX, AG29 VCCINT, AG31 VCCINT, AG33 VCCINT, AH14 VCCINT, AH20 VCCINT, AH22 VCCINT, AH24 VCCBRAM, AH32 VCCINT, AH34 VCCINT, B2 GND, B5 GND, B7 GND, B9 GND, B19 GND, B29 GND, B38 GND, B40 GND, B43 GND, C3 GND, C7 GND, C8 GND, C9 GND, C16 GND, C26 GND, C36 GND, C37 GND, C38 GND, C42 GND, D1 GND, D5 GND, D6 GND, D9 GND, D13 GND, D23 GND, D33 GND, D36 GND, D39 GND, D40 GND, D44 GND, E3 GND, E4 GND, E7 GND, E9 GND, E10 GND, E20 GND, E30 GND, E36 GND, E38 GND, E41 GND, E42 GND, F1 GND, F2 GND, F5 GND, F9 GND, F17 GND, F27 GND, F36 GND, F40 GND, F43 GND, F44 GND, G3 GND, G7 GND, G8 GND, G9 GND, G14 GND, G24 GND, G34 GND, G36 GND, G37 GND, G38 GND, G42 GND, H1 GND, H5 GND, H6 GND, H9 GND, H11 GND, H21 GND, H31 GND, H36 GND, H39 GND, H40 GND, H44 GND, J3 GND, J4 GND, J7 GND, J9 GND, J18 GND, J28 GND, J36 GND, J38 GND, J41 GND, J42 GND, K1 GND, K2 GND, K5 GND, K9 GND, K15 GND, K25 GND, K35 GND, K36 GND, U35 VCCBATT_0, V12 VCCINT, V14 VCCINT, V24 VCCBRAM, V26 VCCAUX_IO_G2, V34 VCCINT, W11 VCCINT, W13 VCCINT, W15 VCCINT, W17 VCCAUX, W19 VCCAUX_IO_G5, W21 VCCINT, W23 VCCBRAM, W25 VCCBRAM, W27 VCCAUX, W29 VCCINT, W31 VCCINT, W33 VCCINT, Y12 VCCINT, Y14 VCCINT, Y16 VCCINT, Y18 VCCAUX_IO_G4, Y20 VCCINT, Y22 VCCINT, Y24 VCCBRAM, Y26 VCCAUX_IO_G2, Y28 VCCINT, Y30 VCCINT, Y32 VCCINT, Y34 VCCINT
part T pins: AA3 GND, AA4 GND, AA7 GND, AA9 GND, AA12 GND, AA14 GND, AA16 GND, AA18 GND, AA20 GND, AA24 GND, AA26 GND, AA28 GND, AA30 GND, AA32 GND, AA34 GND, AA36 GND, AA38 GND, AA41 GND, AA42 GND, AB1 GND, AB2 GND, AB5 GND, AB9 GND, AB10 GND, AB13 GND, AB15 GND, AB17 GND, AB19 GND, AB21 GND, AB25 GND, AB27 GND, AB29 GND, AB31 GND, AB33 GND, AB35 GND, AB36 GND, AB40 GND, AB43 GND, AB44 GND, AC3 GND, AC7 GND, AC8 GND, AC9 GND, AC12 GND, AC14 GND, AC16 GND, AC18 GND, AC20 GND, AC24 GND, AC26 GND, AC28 GND, AC30 GND, AC32 GND, AC34 GND, AC36 GND, AC37 GND, AC38 GND, AC42 GND, AD1 GND, AD5 GND, AD6 GND, AD9 GND, AD10 GND, AD13 GND, AD15 GND, AD17 GND, AD19 GND, AD21 GND, AD25 GND, AD27 GND, AD29 GND, AD31 GND, AD33 GND, AD36 GND, AD39 GND, AD40 GND, AD44 GND, AE3 GND, AE4 GND, AE7 GND, AE9 GND, AE12 GND, AE14 GND, AE16 GND, AE18 GND, AE20 GND, AE22 GND, AE24 GND, AE26 GND, AE28 GND, AE30 GND, AE32 GND, AE34 GND, AE36 GND, AE38 GND, AE41 GND, AE42 GND, AF1 GND, AF2 GND, AF5 GND, AF9 GND, AF10 GND, AF11 GND, AF13 GND, AF15 GND, AF17 GND, AF19 GND, AF21 GND, AF23 GND, AF25 GND, AF27 GND, AF29 GND, AF31 GND, AF33 GND, AF36 GND, AF40 GND, AF43 GND, AF44 GND, AG3 GND, AG7 GND, AG8 GND, AG9 GND, AG10 GND, AG12 GND, AG14 GND, AG16 GND, AG18 GND, AG20 GND, AG22 GND, AG24 GND, AG26 GND, AG28 GND, AG30 GND, AG32 GND, AG34 GND, AG36 GND, AG37 GND, AG38 GND, AG42 GND, AH1 GND, AH5 GND, AH6 GND, AH9 GND, AH11 GND, AH13 GND, AH15 GND, AH19 GND, AH21 GND, AH23 GND, AH25 GND, AH31 GND, AH33 GND, AH35 GND, AH36 GND, AH39 GND, AH40 GND, AH44 GND, AJ3 GND, AJ4 GND, AJ7 GND, AJ9 GND, AJ18 GND, AJ28 GND, AJ36 GND, AJ38 GND, AJ41 GND, AJ42 GND, AK1 GND, AK2 GND, K40 GND, K43 GND, K44 GND, L3 GND, L7 GND, L8 GND, L9 GND, L12 GND, L22 GND, L32 GND, L36 GND, L37 GND, L38 GND, L42 GND, M1 GND, M5 GND, M6 GND, M9 GND, M19 GND, M29 GND, M36 GND, M39 GND, M40 GND, M44 GND, N3 GND, N4 GND, N7 GND, N9 GND, N16 GND, N26 GND, N36 GND, N38 GND, N41 GND, N42 GND, P1 GND, P2 GND, P5 GND, P9 GND, P13 GND, P23 GND, P33 GND, P36 GND, P40 GND, P43 GND, P44 GND, R3 GND, R7 GND, R8 GND, R9 GND, R10 GND, R20 GND, R30 GND, R36 GND, R37 GND, R38 GND, R42 GND, T1 GND, T5 GND, T6 GND, T9 GND, T17 GND, T27 GND, T34 GND, T35 GND, T36 GND, T39 GND, T40 GND, T44 GND, U3 GND, U4 GND, U7 GND, U9 GND, U14 GND, U24 GND, U34 GND, U36 GND, U38 GND, U41 GND, U42 GND, V1 GND, V2 GND, V5 GND, V9 GND, V10 GND, V11 GND, V21 GND, V23 GND, V25 GND, V31 GND, V35 GND, V36 GND, V40 GND, V43 GND, V44 GND, W3 GND, W7 GND, W9 GND, W12 GND, W14 GND, W16 GND, W18 GND, W20 GND, W22 GND, W24 GND, W26 GND, W28 GND, W30 GND, W32 GND, W34 GND, W36 GND, W38 GND, W42 GND, Y1 GND, Y5 GND, Y6 GND, Y9 GND, Y10 GND, Y13 GND, Y15 GND, Y17 GND, Y19 GND, Y21 GND, Y23 GND, Y25 GND, Y27 GND, Y29 GND, Y31 GND, Y33 GND, Y35 GND, Y36 GND, Y39 GND, Y40 GND, Y44 GND
part U pins: AK5 GND, AK9 GND, AK15 GND, AK25 GND, AK35 GND, AK36 GND, AK40 GND, AK43 GND, AK44 GND, AL3 GND, AL7 GND, AL8 GND, AL9 GND, AL12 GND, AL22 GND, AL32 GND, AL36 GND, AL37 GND, AL38 GND, AL42 GND, AM1 GND, AM5 GND, AM6 GND, AM9 GND, AM19 GND, AM29 GND, AM36 GND, AM39 GND, AM40 GND, AM44 GND, AN3 GND, AN4 GND, AN7 GND, AN9 GND, AN16 GND, AN26 GND, AN36 GND, AN38 GND, AN41 GND, AN42 GND, AP1 GND, AP2 GND, AP5 GND, AP9 GND, AP13 GND, AP23 GND, AP33 GND, AP36 GND, AP40 GND, AP43 GND, AP44 GND, AR3 GND, AR7 GND, AR9 GND, AR10 GND, AR20 GND, AR30 GND, AR36 GND, AR38 GND, AR42 GND, AT1 GND, AT5 GND, AT6 GND, AT9 GND, AT17 GND, AT27 GND, AT36 GND, AT39 GND, AT40 GND, AT44 GND, AU3 GND, AU4 GND, AU7 GND, AU8 GND, AU9 GND, AU14 GND, AU24 GND, AU34 GND, AU36 GND, AU37 GND, AU38 GND, AU41 GND, AU42 GND, AV1 GND, AV2 GND, AV5 GND, AV9 GND, AV11 GND, AV21 GND, AV31 GND, AV36 GND, AV40 GND, AV43 GND, AV44 GND, AW3 GND, AW7 GND, AW9 GND, AW18 GND, AW28 GND, AW36 GND, AW38 GND, AW42 GND, AY1 GND, AY5 GND, AY6 GND, AY9 GND, AY15 GND, AY25 GND, AY35 GND, AY36 GND, AY39 GND, AY40 GND, AY44 GND, BA3 GND, BA4 GND, BA7 GND, BA8 GND, BA9 GND, BA12 GND, BA22 GND, BA32 GND, BA36 GND, BA37 GND, BA38 GND, BA41 GND, BA42 GND, BB1 GND, BB2 GND, BB5 GND, BB7 GND, BB9 GND, BB19 GND, BB29 GND, BB38 GND, BB40 GND, BB43 GND, BB44 GND, BC2 GND, BC3 GND, BC7 GND, BC16 GND, BC26 GND, BC36 GND, BC38 GND, BC42 GND, BC43 GND, BD5 GND, BD6 GND, BD7 GND, BD13 GND, BD23 GND, BD33 GND, BD38 GND, BD39 GND, BD40 GND

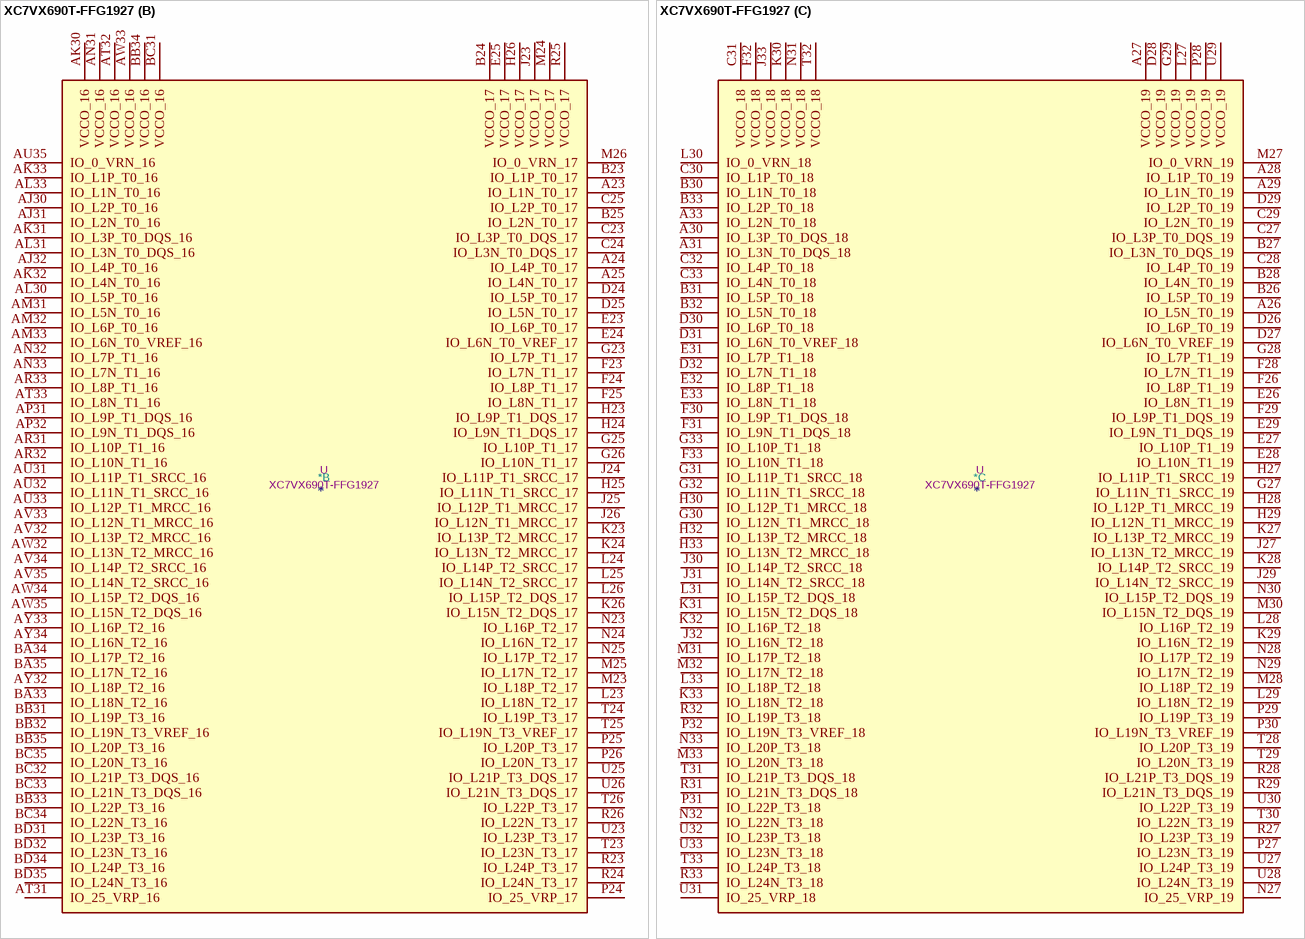
[diagram p127: symbol XC7VX690T-FFG1927]

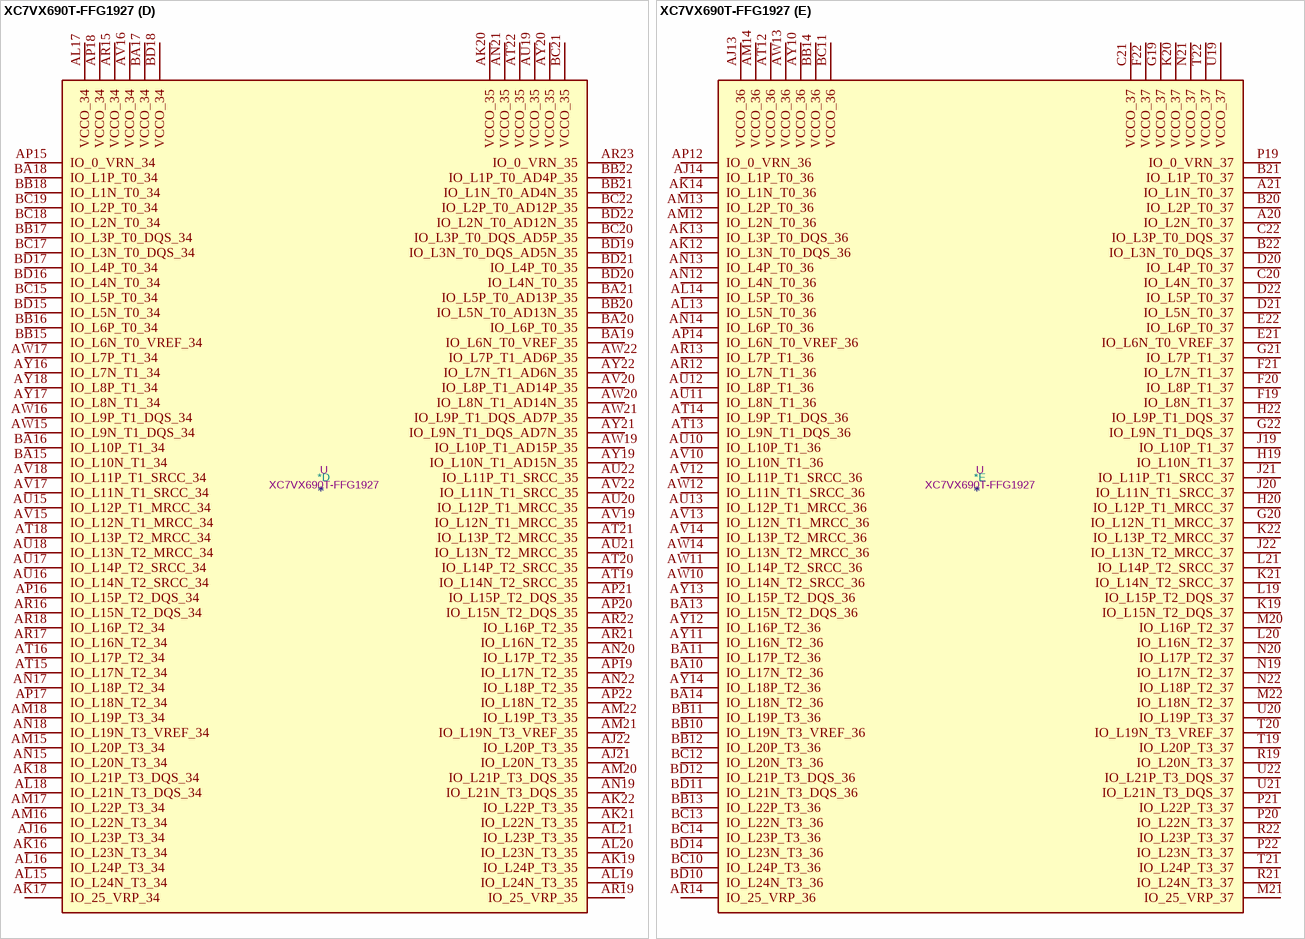
[diagram p128: symbol XC7VX690T-FFG1927]

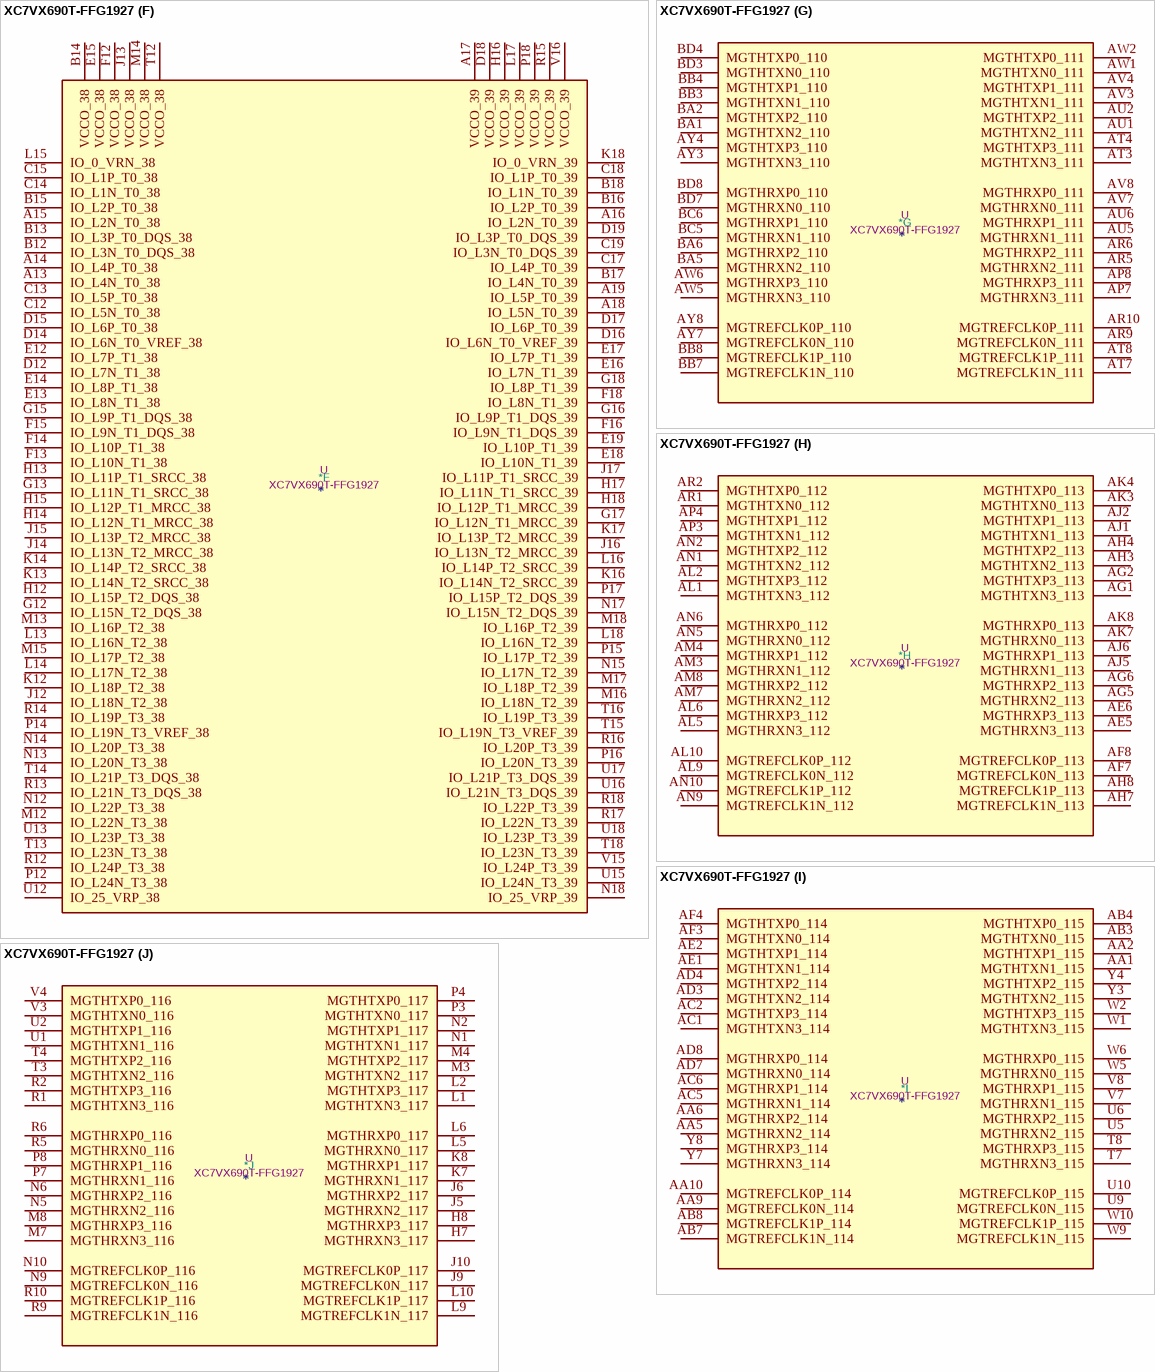
[diagram p129: symbol XC7VX690T-FFG1927]

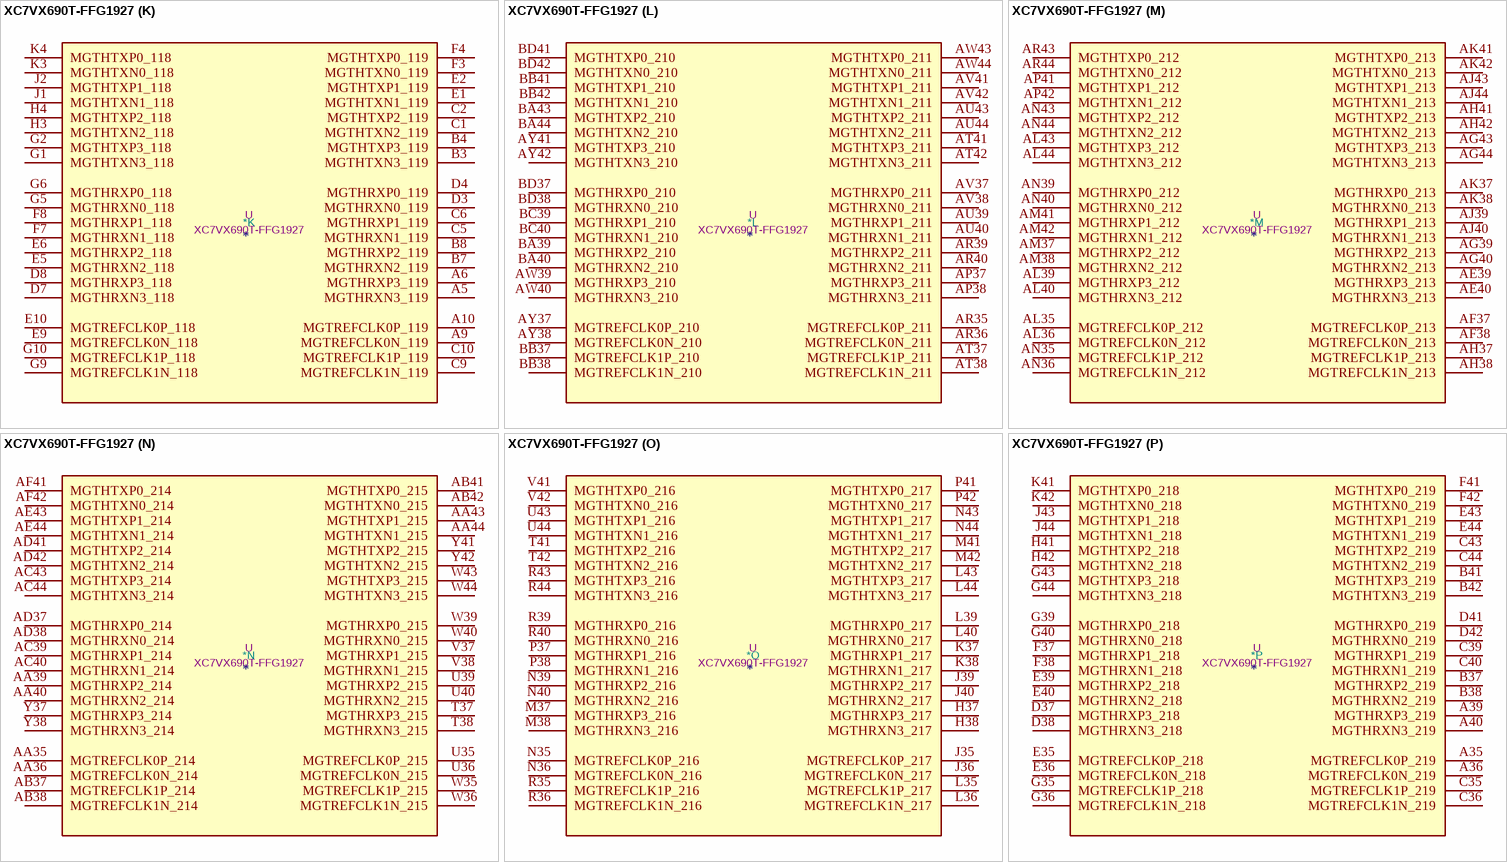
[diagram p130: symbol XC7VX690T-FFG1927]

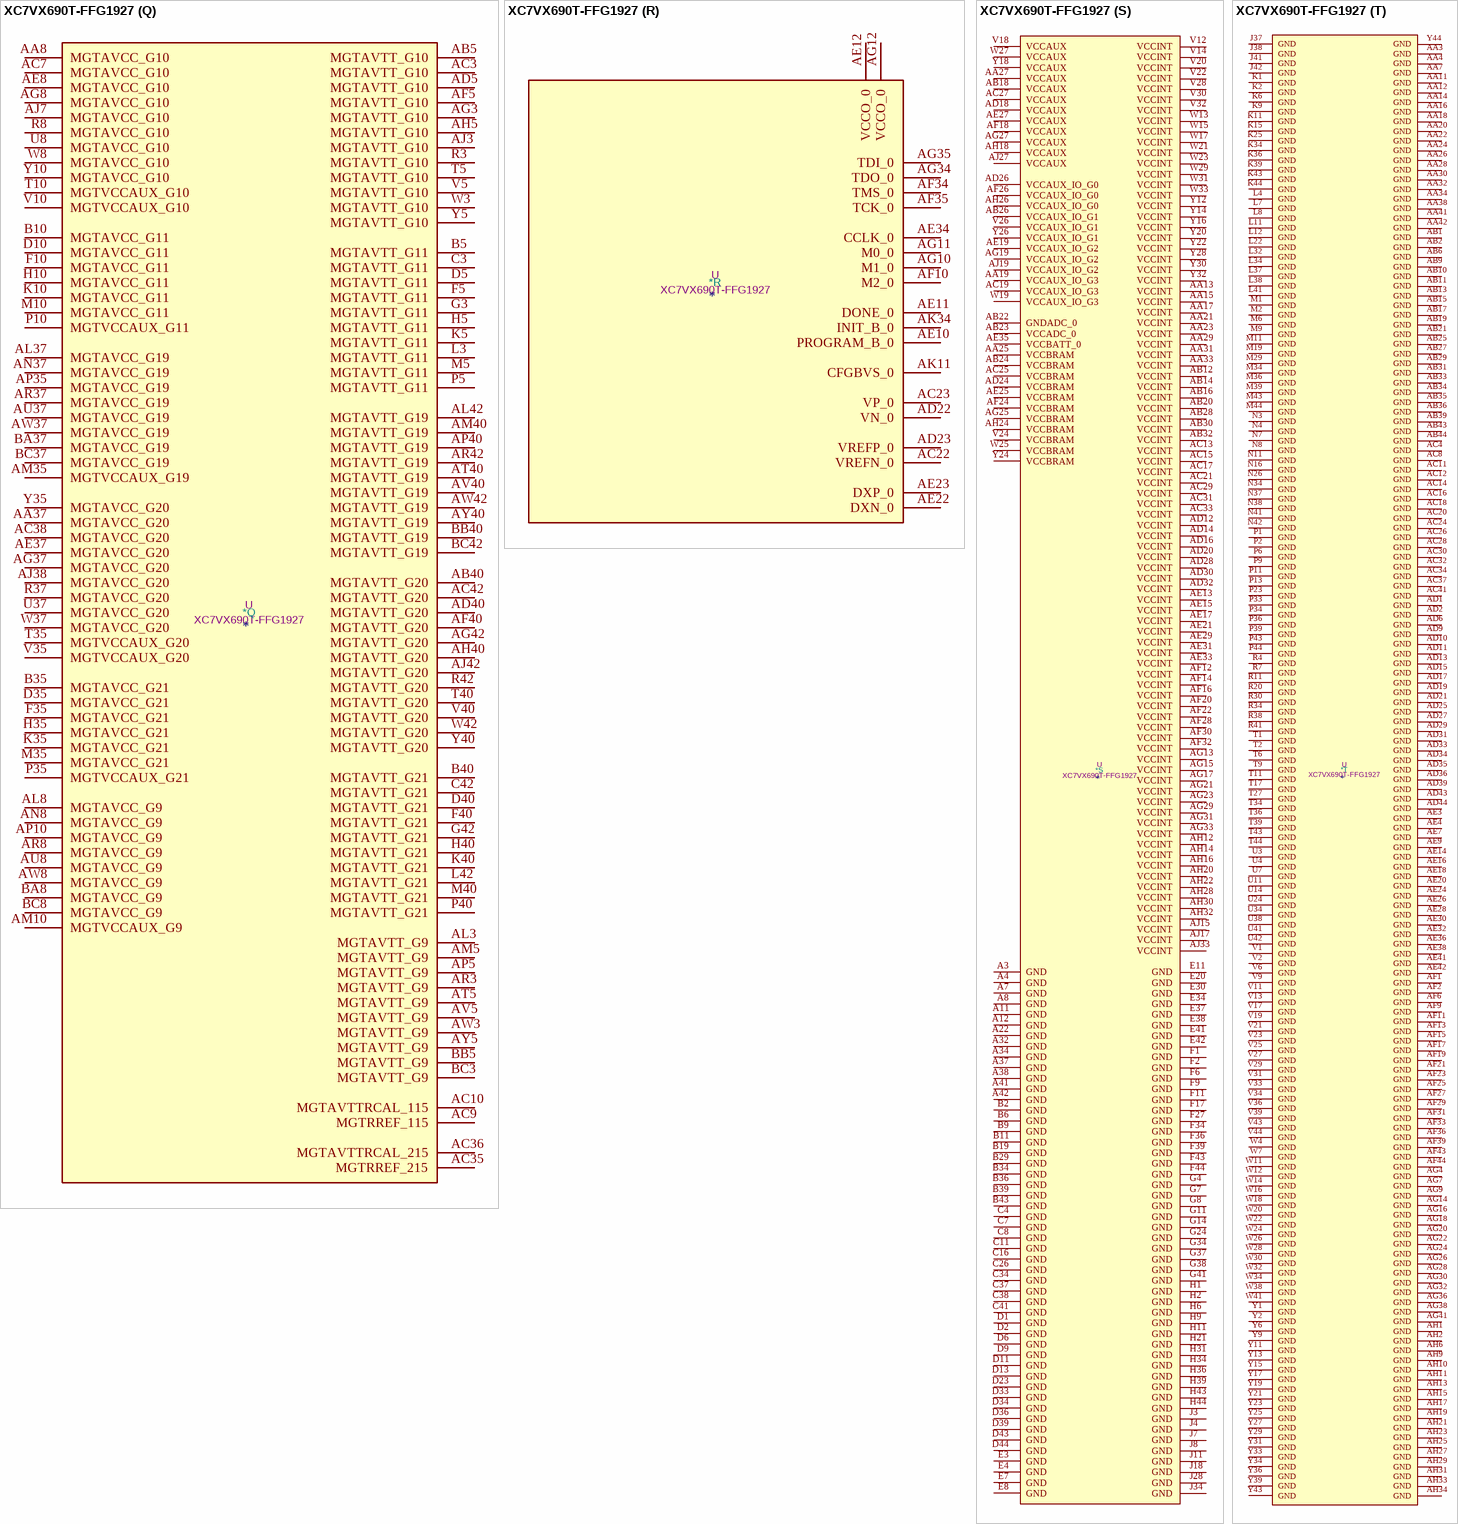
[diagram p131: symbol XC7VX690T-FFG1927]

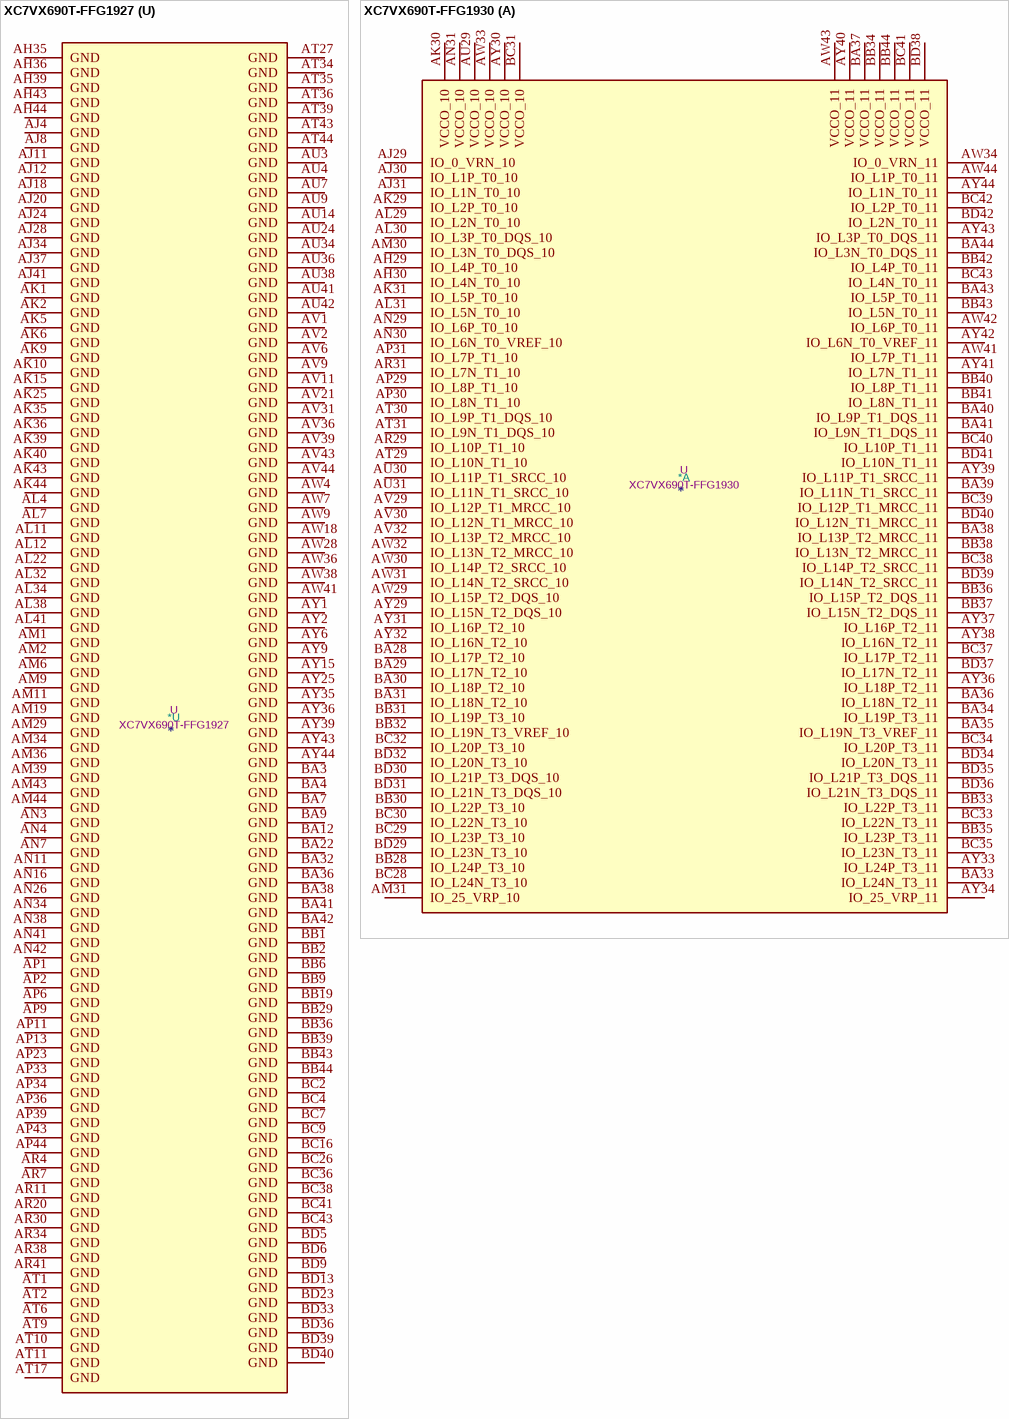
[diagram p132: symbols XC7VX690T-FFG1927 to XC7VX690T-FFG1930]